# Altium footprint library HT_L293D_Driver.PcbLib: 19 footprints (part 1 of 2)
Each footprint in its own frame and in the unit in brackets; x right, y up, seen from the top. Pads: shape width x height; smd on the part's side, far side on the other; paste and mask are expansions set on the pad; w line width, h text height; cw(c..) or ccw(c..) is an arc to the next point about the centre after c.
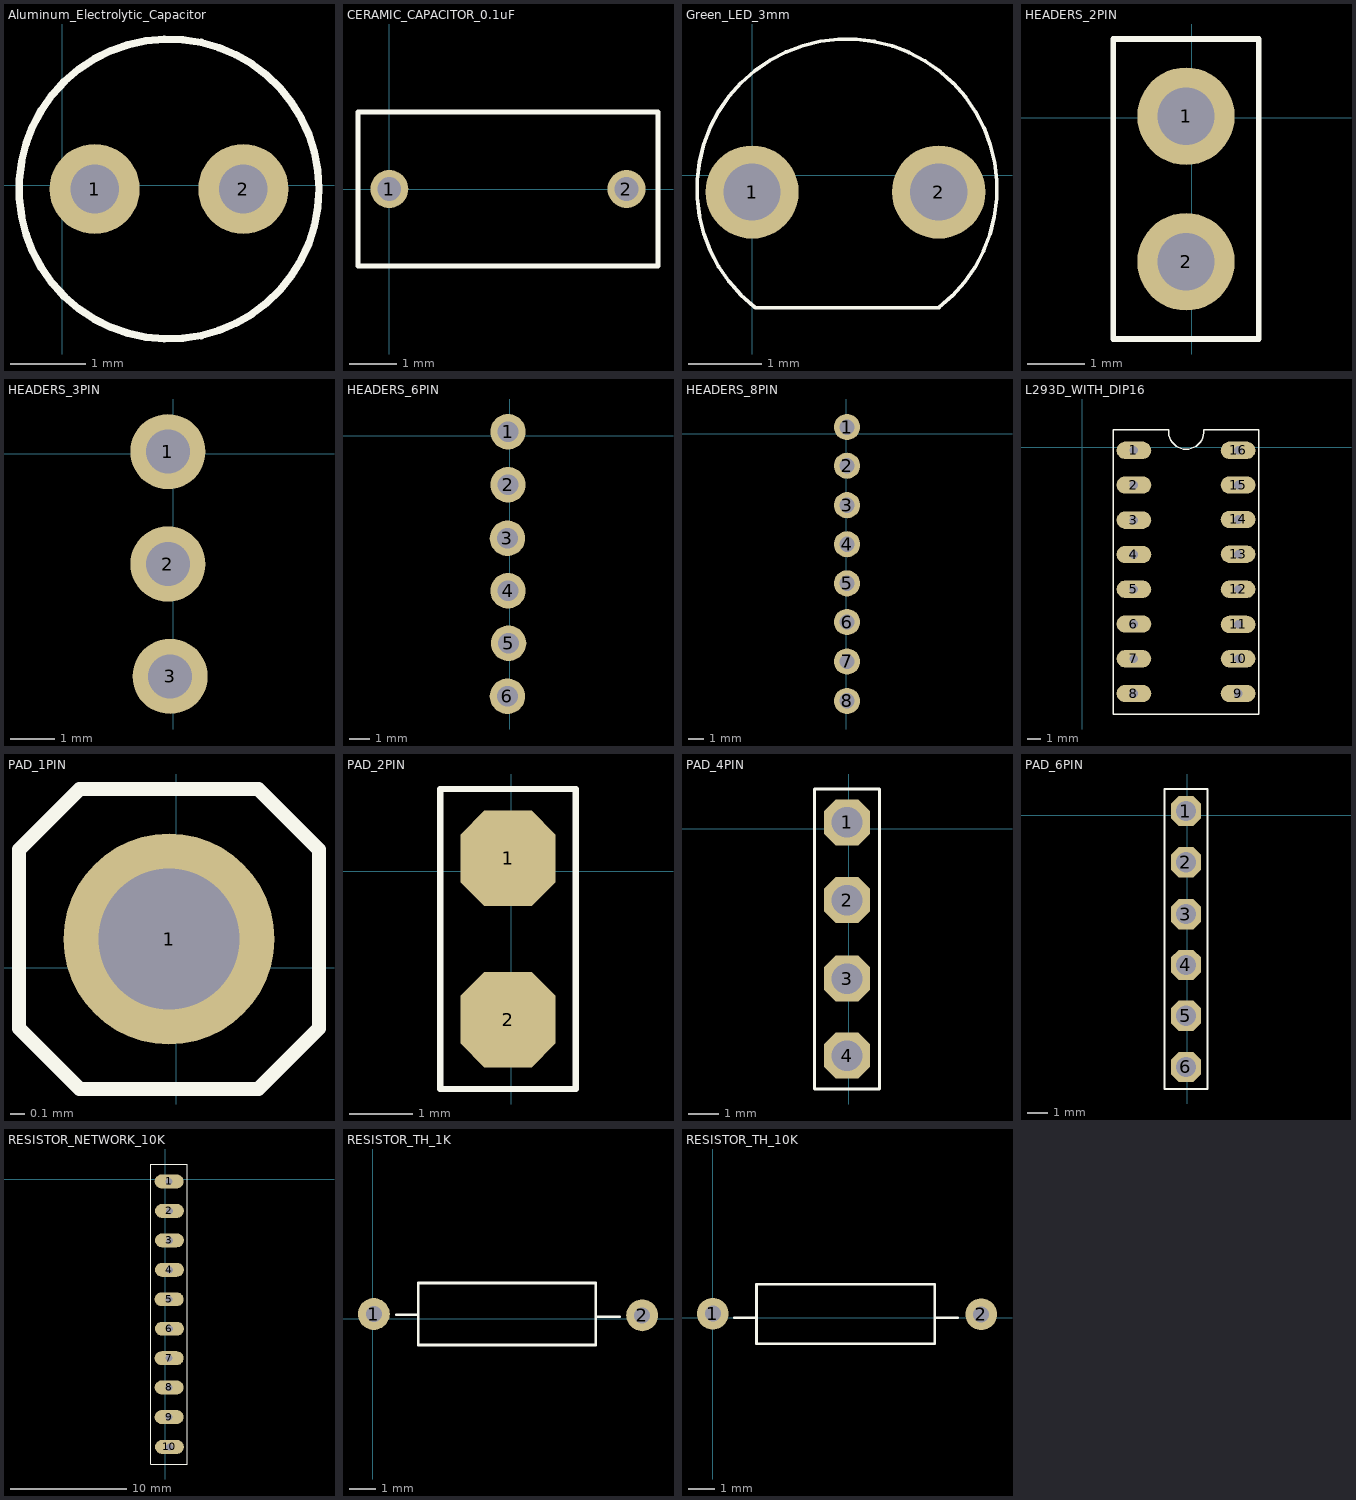
[diagram p0: the footprints below, top view; thin cyan lines are the x and y axes]

## Aluminum_Electrolytic_Capacitor [mm]
pads (2):
  round 1.2 hole 0.65: 1(0.432,-0.051) 2(2.413,-0.051)
Top Overlay:
  circle w0.1: c1.422,-0.051 r2
3D body "4x8x2mm.stp": height 8.12, standoff -4.68, extent -0.574,-2.057 3.419,1.939

## CERAMIC_CAPACITOR_0.1uF [mm]
pads (2):
  round 0.8 hole 0.5: 1(0,0) 2(5,0)
Top Overlay:
  lines w0.1: -0.66,-1.626 -0.66,1.626 5.664,1.626 5.664,-1.626 -0.66,-1.626
3D body "CAP_DISC_4x3_YL.stp": height 4.72, standoff -2.75, extent -0.224,-1.5 5.225,1.5

## Green_LED_3mm [mil]
pads (2):
  round 50 hole 30.71: 1(0,-9) 2(100,-9)
Top Overlay:
  lines w1.97: 1.28,-70.63 cw(c50.87,-7.37) 100.08,-70.92 ; 1.79,-70.92 100.31,-70.92
3D body "CircuitWorks-GREENLED.step": height 219.87, standoff -117.13, extent -27.49,-67.99 129.51,69.5

## HEADERS_2PIN [mm]
pads (2):
  round 1.7 hole 1: 1(-0.102,0.025) 2(-0.102,-2.515)
Top Overlay:
  lines w0.1: -1.372,-3.861 -1.372,1.372 1.168,1.372 1.168,-3.861 -1.372,-3.861
3D body "Jumper2-yellow.step": height 8.8, standoff -2.8, extent -1.372,-3.844 1.168,1.356

## HEADERS_3PIN [mm]
pads (3):
  round 1.7 hole 1: 1(-0.127,0.051) 2(-0.127,-2.489) 3(-0.076,-5.029)
3D body "header3pin.stp": height 8.76, standoff -2.78, extent -1.372,-6.299 1.168,1.321

## HEADERS_6PIN [mm]
pads (6):
  round 1.7 hole 1: 1(-0.076,0.203) 2(-0.076,-2.337) 3(-0.102,-4.902) 4(-0.076,-7.417) 5(-0.051,-9.931) 6(-0.102,-12.471)
3D body "header6pin.stp": height 2.68, standoff -8.86, extent -1.372,-13.767 1.168,1.473

## HEADERS_8PIN [mm]
pads (8):
  round 1.7 hole 1: 1(0.051,0.432) 2(0.051,-2.083) 3(0.051,-4.648) 4(0.051,-7.188) 5(0.051,-9.728) 6(0.051,-12.243) 7(0.051,-14.808) 8(0.051,-17.374)
3D body "header8pin.stp": height 2.68, standoff -8.86, extent -1.219,-18.618 1.321,1.702

## L293D_WITH_DIP16 [mil]
pads (16):
  oval 100x50 hole 25: 1(148,-9) 2(148,-109) 3(148,-210) 4(148,-309) 5(148,-409) 6(148,-509) 7(148,-609) 8(148,-709) 9(448,-709) 10(448,-609) 11(448,-510) 12(448,-409) 13(448,-308) 14(448,-208) 15(448,-109) 16(448,-9)
Top Overlay:
  lines w3.94: 89,-768 507,-768 507,50 349,50 cw(c298.5,44.77) 248,50 89,50 89,-768
3D body "l293d.stp": height 329.09, standoff -0.91, extent 115,-740.5 478.53,24.5
3D body "User Library-16pin 0_3inch 2_54mm IC DIP Socket.step": height 196.85, standoff -118.11, extent 98,-759 498,41

## PAD_1PIN [mm]
pads (1):
  round 1.5 hole 1: 1(-0.051,0.203)
Top Overlay:
  lines w0.1: -1.118,-0.432 -0.686,-0.864 0.584,-0.864 1.016,-0.432 1.016,0.838 0.584,1.27 -0.686,1.27 -1.118,0.838 -1.118,-0.432

## PAD_2PIN [mil]
pads (2):
  oct 59.06x59.06 all layers, no hole: 1(-2,8) 2(-2,-92)
Top Overlay:
  lines w3.94: -44,-135 40,-135 40,51 -44,51 -44,-135

## PAD_4PIN [mm]
pads (4):
  oct 1.5x1.5 hole 1: 1(-0.051,0.203) 2(-0.051,-2.337) 3(-0.051,-4.902) 4(-0.051,-7.417)
Top Overlay:
  lines w0.1: -1.118,-8.509 -1.118,1.295 1.016,1.295 1.016,-8.509 -1.118,-8.509

## PAD_6PIN [mm]
pads (6):
  oct 1.5x1.5 hole 1: 1(-0.051,0.203) 2(-0.051,-2.337) 3(-0.051,-4.902) 4(-0.051,-7.417) 5(-0.051,-9.931) 6(-0.051,-12.471)
Top Overlay:
  lines w0.1: -1.118,-13.564 -1.118,1.295 1.016,1.295 1.016,-13.564 -1.118,-13.564

## PCBComponent_1 [mil]

## RESISTOR_NETWORK_10K [mm]
pads (10):
  oval 2.5x1.2 hole 0.6: 1(0.33,-0.203) 2(0.356,-2.743) 3(0.356,-5.283) 4(0.356,-7.823) 5(0.33,-10.363) 6(0.356,-12.903) 7(0.33,-15.443) 8(0.33,-17.958) 9(0.33,-20.523) 10(0.356,-23.089)
Top Overlay:
  lines w0.1: -1.245,-24.562 -1.245,1.295 1.88,1.295 1.88,-24.562 -1.245,-24.562
3D body "4610x-102-103lf.stp": height 2.84, standoff -5.55, extent -0.89,-24.308 1.6,1.042

## RESISTOR_TH_1K [mm]
pads (2):
  round 1.2 hole 0.6: 1(0.051,0.178) 2(10.16,0.127)
Top Overlay:
  lines w0.1: 0.889,0.152 1.727,0.152 ; 8.484,0.076 9.322,0.076 ; 1.727,-0.991 8.407,-0.991 8.407,1.346 1.727,1.346 1.727,-0.991
3D body "Res-10.16-6.3x2.3-1k.step": height 2.51, standoff -3.35, extent -0.222,-0.99 10.434,1.346

## RESISTOR_TH_10K [mm]
pads (2):
  round 1.2 hole 0.6: 1(0,0.152) 2(10.16,0.127)
Top Overlay:
  lines w0.1: 0.813,0 1.6,0 ; 8.433,0 9.271,0 ; 1.651,-0.991 1.651,1.27 8.407,1.27 8.407,-0.991 1.651,-0.991
3D body "Res-10.16-6.3x2.3-10k.step": height 2.51, standoff -3.35, extent -0.248,-1.041 10.408,1.294